# Altium footprint library APSS Flight Parts.PcbLib: 24 footprints (part 1 of 2)
Each footprint in its own frame and in the unit in brackets; x right, y up, seen from the top. Pads: shape width x height; smd on the part's side, far side on the other; paste and mask are expansions set on the pad; w line width, h text height; cw(c..) or ccw(c..) is an arc to the next point about the centre after c.
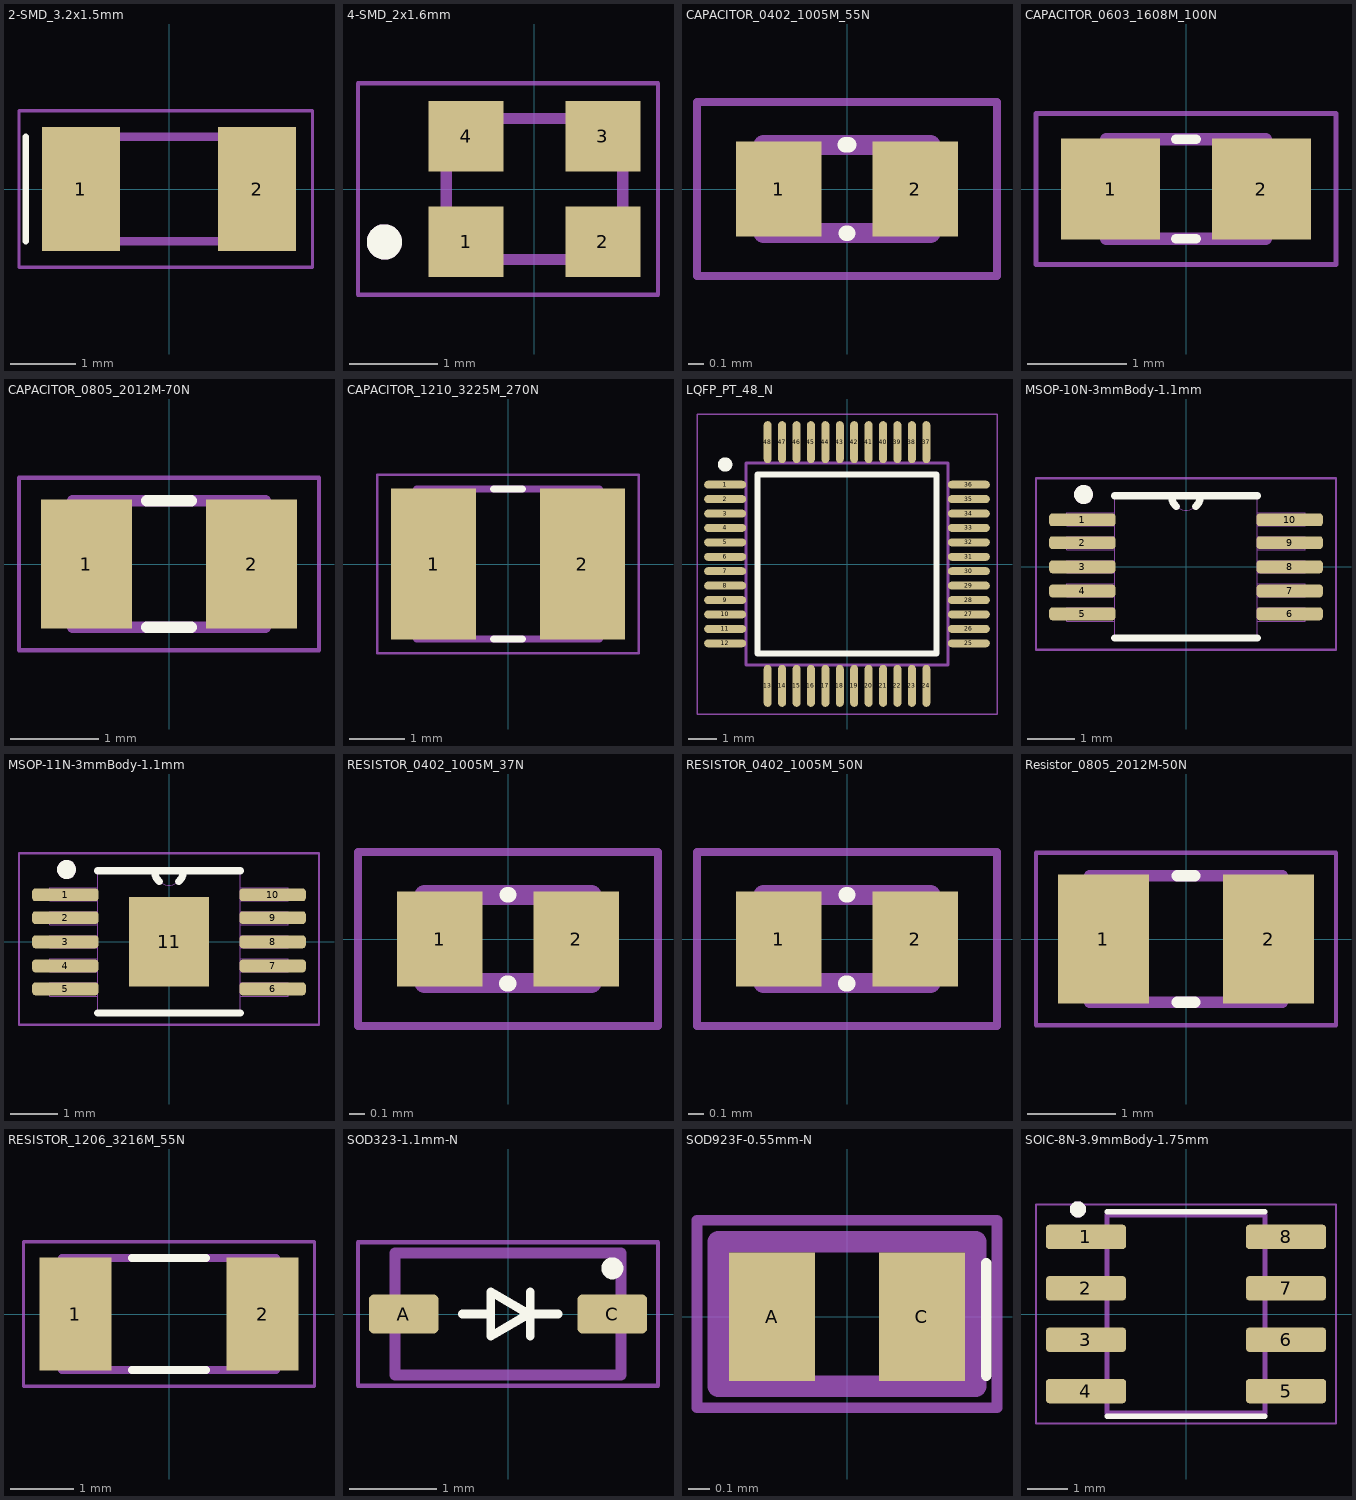
[diagram p0: the footprints below, top view; thin cyan lines are the x and y axes]

## 2-SMD_3.2x1.5mm [mm] "2SMD, No Lead, 3.20mm x 1.50mm"
height 0.9
pads (2):
  rect 1.2x1.9 smd: 1(-1.35,0) 2(1.35,0)
Top Overlay:
  lines w0.1: -2.2,-0.8 -2.2,0.8
Mechanical 13:
  lines w0.127: -1.7,-0.8 -1.7,0.8 1.7,0.8 1.7,-0.8 -1.7,-0.8
Mechanical 15:
  lines w0.05: -2.3,-1.2 -2.3,1.2 2.2,1.2 2.2,-1.2 -2.3,-1.2
3D body "XTAL_ECX-34Q_ECS.step": height 0.89, standoff 0, extent -1.651,-0.8 1.651,0.8

## 4-SMD_2x1.6mm [mm] "4SMD, No Lead, 2.00mm x 1.60mm"
height 0.65
pads (4):
  rect 0.85x0.8 smd: 1(-0.775,-0.6) 2(0.775,-0.6) 3(0.775,0.6) 4(-0.775,0.6)
Top Overlay:
  circle w0.2: c-1.7,-0.6 r0.1
Mechanical 13:
  circle w0.2: c-1.7,-0.6 r0.1
  lines w0.127: -1,-0.8 1,-0.8 1,0.8 -1,0.8 -1,-0.8
Mechanical 15:
  lines w0.05: -2,-1.2 1.4,-1.2 1.4,1.2 -2,1.2 -2,-1.2
3D body "ECS-320-8-37B-CKY-TR.step": height 0.51, standoff 0.01, extent -1,-0.8 1,0.8

## CAPACITOR_0402_1005M_55N [mm] "Capacitor, 0402 (1005 metric), 0.55mm height, nominal pads"
height 0.55
pads (2):
  rect 0.54x0.6 smd mask+0.051: 1(-0.432,0) 2(0.432,0)
Top Overlay:
  lines w0.1: -0.01,0.28 0.01,0.28 ; -0.005,-0.28 0.005,-0.28
Mechanical 13:
  lines w0.127: -0.53,-0.28 -0.53,0.28 0.53,0.28 0.53,-0.28 -0.53,-0.28
Mechanical 15:
  lines w0.05: -0.95,-0.55 -0.95,0.55 0.95,0.55 0.95,-0.55 -0.95,-0.55
3D body "GCM1555C1H102FA16D.step": height 0.48, standoff -0.02, extent -0.5,-0.279 0.5,0.271

## CAPACITOR_0603_1608M_100N [mm] "Capacitor, 0603 (1608 metric), 1mm high, nominal pads"
height 1
pads (2):
  rect 1x1.02 smd mask+0.051: 1(-0.759,0) 2(0.759,0)
Top Overlay:
  lines w0.1: -0.103,-0.5 0.1,-0.5 ; -0.103,0.5 0.1,0.5
Mechanical 13:
  lines w0.127: -0.8,-0.5 0.8,-0.5 0.8,0.5 -0.8,0.5 -0.8,-0.5
Mechanical 15:
  lines w0.05: -1.508,-0.758 1.508,-0.758 1.508,0.758 -1.508,0.758 -1.508,-0.758
3D body "GRM188Z71A106KA73D.step": height 0.78, standoff -0.02, extent -0.8,-0.5 0.8,0.5

## CAPACITOR_0805_2012M-70N [mm] "Capacitor, 0805 (2012 metric), 0.7mm high, nominal pads,"
height 0.5
pads (2):
  rect 1.04x1.47 smd mask+0.051: 1(-0.94,0) 2(0.94,0)
Top Overlay:
  lines w0.127: -0.254,-0.72 0.254,-0.72 ; -0.254,0.72 0.254,0.72
Mechanical 13:
  lines w0.127: -1.1,-0.72 -1.1,0.72 1.1,0.72 1.1,-0.72 -1.1,-0.72
Mechanical 15:
  lines w0.05: -1.708,-0.983 -1.708,0.983 1.708,0.983 1.708,-0.983 -1.708,-0.983
3D body "GCM2165C2A122JA16J.STEP": height 1.23, standoff -0.02, extent -1,-0.725 1,0.725

## CAPACITOR_1210_3225M_270N [mm] "Capacitor, 1210 (3225 metric), 2.7mm high, nominal pads"
height 2.7
pads (2):
  rect 1.53x2.72 smd: 1(-1.341,0) 2(1.341,0)
Top Overlay:
  lines w0.127: -0.26,-1.35 0.26,-1.35 ; -0.26,1.35 0.26,1.35
Mechanical 13:
  lines w0.127: -1.651,-1.35 -1.651,1.35 1.651,1.35 1.651,-1.35 -1.651,-1.35
Mechanical 15:
  lines w0.05: -2.355,-1.608 -2.355,1.608 2.355,1.608 2.355,-1.608 -2.355,-1.608
3D body "GRM32ER61A107ME20L.step": height 2.48, standoff -0.02, extent -1.6,-1.397 1.6,1.303

## LQFP_PT_48_N [mm]
pads (48):
  oval 1.45x0.28 smd paste+0 mask+0.051: 1(-4.225,2.75) 2(-4.225,2.25) 3(-4.225,1.75) 4(-4.225,1.25) 5(-4.225,0.75) 6(-4.225,0.25) 7(-4.225,-0.25) 8(-4.225,-0.75) 9(-4.225,-1.25) 10(-4.225,-1.75) 11(-4.225,-2.25) 12(-4.225,-2.75) 25(4.225,-2.75) 26(4.225,-2.25) 27(4.225,-1.75) 28(4.225,-1.25) 29(4.225,-0.75) 30(4.225,-0.25) 31(4.225,0.25) 32(4.225,0.75) 33(4.225,1.25) 34(4.225,1.75) 35(4.225,2.25) 36(4.225,2.75)
  oval 0.28x1.45 smd paste+0 mask+0.051: 13(-2.75,-4.225) 14(-2.25,-4.225) 15(-1.75,-4.225) 16(-1.25,-4.225) 17(-0.75,-4.225) 18(-0.25,-4.225) 19(0.25,-4.225) 20(0.75,-4.225) 21(1.25,-4.225) 22(1.75,-4.225) 23(2.25,-4.225) 24(2.75,-4.225) 37(2.75,4.225) 38(2.25,4.225) 39(1.75,4.225) 40(1.25,4.225) 41(0.75,4.225) 42(0.25,4.225) 43(-0.25,4.225) 44(-0.75,4.225) 45(-1.25,4.225) 46(-1.75,4.225) 47(-2.25,4.225) 48(-2.75,4.225)
Top Overlay:
  circle w0.25: c-4.225,3.45 r0.125
  lines w0.2: -3.1,-3.1 3.1,-3.1 3.1,3.1 -3.1,3.1 -3.1,-3.1
Mechanical 13:
  lines w0.1: -3.5,-3.5 3.5,-3.5 3.5,3.5 -3.5,3.5 -3.5,-3.5
Mechanical 15:
  lines w0.05: -5.2,-5.2 5.2,-5.2 5.2,5.2 -5.2,5.2 -5.2,-5.2
3D body "MSP430FR2355TPT.STEP": height 1.6, standoff 0, extent -4.5,-4.5 4.5,4.5

## MSOP-10N-3mmBody-1.1mm [mil] "MSOP-10, 3mm body width, 1.1mm high, nominal pads"
height 43.31
pads (10):
  rrect50% 55x10.63 smd mask+2: 1(-86,39) 2(-86,20) 3(-86,0) 4(-86,-20) 5(-86,-39) 6(86,-39) 7(86,-20) 8(86,0) 9(86,20) 10(86,39)
Top Overlay:
  circle w7.87: c-85,60 r3.94
  lines w6: -59,-59 59,-59 ; -59,59 -12,59 ; -7.99,49.99 cw(c0.11,58.99) -12,58.99 ; 7.99,49.99 ccw(c-0.11,58.99) 12,58.99 ; 59,59 12,59 ; -12,59 12,59
Mechanical 13:
  circle w7.87: c-85,60 r3.94
  lines w1: -99,-45 -59,-45 ; -99,-45 -99,-34 ; -99,-45 -59,-45 ; -99,-45 -99,-34 ; -99,-34 -59,-34 ; -99,-34 -59,-34 ; -99,-25 -59,-25 ; -99,-25 -99,-14 ; -99,-25 -59,-25 ; -99,-25 -99,-14 ; -99,-14 -59,-14 ; -99,-14 -59,-14 ; -99,-5 -59,-5 ; -99,-5 -99,5 ; -99,-5 -59,-5 ; -99,-5 -99,5 ; -99,5 -59,5 ; -99,5 -59,5 ; -99,14 -59,14 ; -99,14 -99,25 ; -99,14 -59,14 ; -99,14 -99,25 ; -99,25 -59,25 ; -99,25 -59,25 ; -99,34 -59,34 ; -99,34 -99,45 ; -99,34 -59,34 ; -99,34 -99,45 ; -99,45 -59,45 ; -99,45 -59,45 ; -59,-59 -59,59 ; -59,-59 59,-59 ; -59,-59 -59,59 ; -59,-59 59,-59 ; -59,-45 -59,-34 ; -59,-45 -59,-34 ; -59,-25 -59,-14 ; -59,-25 -59,-14 ; -59,-5 -59,5 ; -59,-5 -59,5 ; -59,14 -59,25 ; -59,14 -59,25 ; -59,34 -59,45 ; -59,34 -59,45 ; -59,59 -12,59 ; -59,59 -12,59 ; -12,59 ccw(c0,59) 12,59 ; -12,59 ccw(c0,59) 12,59 ; -12,59 12,59 ; -12,59 12,59 ; 12,59 59,59 ; 12,59 59,59 ; 59,-59 59,59 ; 59,-59 59,59 ; 59,-45 99,-45 ; 59,-45 59,-34 ; 59,-45 99,-45 ; 59,-45 59,-34 ; 59,-34 99,-34 ; 59,-34 99,-34 ; 59,-25 99,-25 ; 59,-25 59,-14 ; 59,-25 99,-25 ; 59,-25 59,-14 ; 59,-14 99,-14 ; 59,-14 99,-14 ; 59,-5 99,-5 ; 59,-5 59,5 ; 59,-5 99,-5 ; 59,-5 59,5 ; 59,5 99,5 ; 59,5 99,5 ; 59,14 99,14 ; 59,14 59,25 ; 59,14 99,14 ; 59,14 59,25 ; 59,25 99,25 ; 59,25 99,25 ; 59,34 99,34 ; 59,34 59,45 ; 59,34 99,34 ; 59,34 59,45 ; 59,45 99,45 ; 59,45 99,45 ; 99,-45 99,-34 ; 99,-45 99,-34 ; 99,-25 99,-14 ; 99,-25 99,-14 ; 99,-5 99,5 ; 99,-5 99,5 ; 99,14 99,25 ; 99,14 99,25 ; 99,34 99,45 ; 99,34 99,45
Mechanical 15:
  lines w1.97: -124.41,-68.9 124.41,-68.9 124.41,73.62 -124.41,73.62 -124.41,-68.9
3D body "AD5162BRMZ2.5-RL7.step": height 43.31, standoff 0, extent -96.46,-59.06 96.46,59.06

## MSOP-11N-3mmBody-1.1mm [mil] "MSOP-10 with power pad, 3mm body width, 1.1mm high, nominal pads"
height 43.31
pads (11):
  rrect50% 55x10.63 smd mask+2: 1(-86,39) 2(-86,20) 3(-86,0) 4(-86,-20) 5(-86,-39) 6(86,-39) 7(86,-20) 8(86,0) 9(86,20) 10(86,39)
  rect 66x74 smd mask+2: 11(0,0)
Top Overlay:
  circle w7.87: c-85,60 r3.94
  lines w6: -59,-59 59,-59 ; -59,59 -12,59 ; -7.99,49.99 cw(c0.11,58.99) -12,58.99 ; 7.99,49.99 ccw(c-0.11,58.99) 12,58.99 ; 59,59 12,59 ; -12,59 12,59
Mechanical 13:
  circle w7.87: c-85,60 r3.94
  lines w1: -99,-45 -59,-45 ; -99,-45 -99,-34 ; -99,-45 -59,-45 ; -99,-45 -99,-34 ; -99,-34 -59,-34 ; -99,-34 -59,-34 ; -99,-25 -59,-25 ; -99,-25 -99,-14 ; -99,-25 -59,-25 ; -99,-25 -99,-14 ; -99,-14 -59,-14 ; -99,-14 -59,-14 ; -99,-5 -59,-5 ; -99,-5 -99,5 ; -99,-5 -59,-5 ; -99,-5 -99,5 ; -99,5 -59,5 ; -99,5 -59,5 ; -99,14 -59,14 ; -99,14 -99,25 ; -99,14 -59,14 ; -99,14 -99,25 ; -99,25 -59,25 ; -99,25 -59,25 ; -99,34 -59,34 ; -99,34 -99,45 ; -99,34 -59,34 ; -99,34 -99,45 ; -99,45 -59,45 ; -99,45 -59,45 ; -59,-59 -59,59 ; -59,-59 59,-59 ; -59,-59 -59,59 ; -59,-59 59,-59 ; -59,-45 -59,-34 ; -59,-45 -59,-34 ; -59,-25 -59,-14 ; -59,-25 -59,-14 ; -59,-5 -59,5 ; -59,-5 -59,5 ; -59,14 -59,25 ; -59,14 -59,25 ; -59,34 -59,45 ; -59,34 -59,45 ; -59,59 -12,59 ; -59,59 -12,59 ; -12,59 ccw(c0,59) 12,59 ; -12,59 ccw(c0,59) 12,59 ; -12,59 12,59 ; -12,59 12,59 ; 12,59 59,59 ; 12,59 59,59 ; 59,-59 59,59 ; 59,-59 59,59 ; 59,-45 99,-45 ; 59,-45 59,-34 ; 59,-45 99,-45 ; 59,-45 59,-34 ; 59,-34 99,-34 ; 59,-34 99,-34 ; 59,-25 99,-25 ; 59,-25 59,-14 ; 59,-25 99,-25 ; 59,-25 59,-14 ; 59,-14 99,-14 ; 59,-14 99,-14 ; 59,-5 99,-5 ; 59,-5 59,5 ; 59,-5 99,-5 ; 59,-5 59,5 ; 59,5 99,5 ; 59,5 99,5 ; 59,14 99,14 ; 59,14 59,25 ; 59,14 99,14 ; 59,14 59,25 ; 59,25 99,25 ; 59,25 99,25 ; 59,34 99,34 ; 59,34 59,45 ; 59,34 99,34 ; 59,34 59,45 ; 59,45 99,45 ; 59,45 99,45 ; 99,-45 99,-34 ; 99,-45 99,-34 ; 99,-25 99,-14 ; 99,-25 99,-14 ; 99,-5 99,5 ; 99,-5 99,5 ; 99,14 99,25 ; 99,14 99,25 ; 99,34 99,45 ; 99,34 99,45
Mechanical 15:
  lines w1.97: -124.41,-68.9 -124.41,73.62 124.41,73.62 124.41,-68.9 -124.41,-68.9
3D body "LTC2634HMSE-HZ12PBF.step": height 43.31, standoff 0, extent -96.46,-59.06 96.46,59.06

## RESISTOR_0402_1005M_37N [mm] "Resistor, 0402 (1005 metric), 0.37mm height, nominal pads"
height 0.37
pads (2):
  rect 0.54x0.6 smd mask+0.051: 1(-0.432,0) 2(0.432,0)
Top Overlay:
  lines w0.1: -0.007,-0.282 0.003,-0.282 ; -0.005,0.28 0.005,0.28
Mechanical 13:
  lines w0.127: -0.53,-0.28 0.53,-0.28 0.53,0.28 -0.53,0.28 -0.53,-0.28
Mechanical 15:
  lines w0.05: -0.95,-0.55 0.95,-0.55 0.95,0.55 -0.95,0.55 -0.95,-0.55
3D body "RE0402BRE07560KL.step": height 0.37, standoff 0, extent -0.5,-0.25 0.5,0.25

## RESISTOR_0402_1005M_50N [mm] "Resistor, 0402 (1005 metric), 0.5mm height, nominal pads"
height 0.5
pads (2):
  rect 0.54x0.6 smd mask+0.051: 1(-0.432,0) 2(0.432,0)
Top Overlay:
  lines w0.1: -0.007,-0.282 0.003,-0.282 ; -0.005,0.28 0.005,0.28
Mechanical 13:
  lines w0.127: -0.53,-0.28 0.53,-0.28 0.53,0.28 -0.53,0.28 -0.53,-0.28
Mechanical 15:
  lines w0.05: -0.95,-0.55 0.95,-0.55 0.95,0.55 -0.95,0.55 -0.95,-0.55
3D body "NCP15XH103F03RC.step": height 0.48, standoff -0.02, extent -0.475,-0.279 0.525,0.271

## Resistor_0805_2012M-50N [mm] "Resistor, 0805 (2012 metric), nominal pads"
height 0.5
pads (2):
  rect 1.04x1.47 smd mask+0.051: 1(-0.94,0) 2(0.94,0)
Top Overlay:
  lines w0.127: -0.1,-0.72 0.1,-0.72 ; -0.1,0.72 0.1,0.72
Mechanical 13:
  lines w0.127: -1.1,-0.72 1.1,-0.72 1.1,0.72 -1.1,0.72 -1.1,-0.72
Mechanical 15:
  lines w0.05: -1.708,-0.983 1.708,-0.983 1.708,0.983 -1.708,0.983 -1.708,-0.983
3D body "RG2012P-103-D-T5.step": height 0.5, standoff 0, extent -1,-0.625 1,0.625

## RESISTOR_1206_3216M_55N [mm]
height 0.55
pads (2):
  rect 1.13x1.77 smd mask+0.051: 1(-1.47,0) 2(1.47,0)
Top Overlay:
  lines w0.127: -0.58,-0.88 0.58,-0.88 ; -0.58,0.88 0.58,0.88
Mechanical 13:
  lines w0.127: -1.68,-0.88 1.68,-0.88 1.68,0.88 -1.68,0.88 -1.68,-0.88
Mechanical 15:
  lines w0.05: -2.285,-1.135 2.285,-1.135 2.285,1.135 -2.285,1.135 -2.285,-1.135
3D body "TNPW120610K0BETA.STEP": height 0.65, standoff 0, extent -1.6,-0.8 1.6,0.8

## SOD323-1.1mm-N [mm] "SOD-323, nominal pads, 1.1mm high"
height 1.1
pads (2):
  rrect25% 0.8x0.45 smd mask+0.051: A(-1.2,0) C(1.2,0)
Top Overlay:
  circle w0.2: c1.2,0.525 r0.025
  lines w0.1: -0.525,0 -0.2,0 ; 0.206,0 0.575,0 ; 0.257,-0.254 0.257,0.254 ; -0.2,-0.254 0.24,0 -0.2,0.254 -0.2,-0.254
Mechanical 13:
  lines w0.127: -1.3,-0.7 1.3,-0.7 1.3,0.7 -1.3,0.7 -1.3,-0.7
Mechanical 15:
  lines w0.05: -1.725,-0.825 -1.725,0.825 -1.105,0.825 1.105,0.825 1.725,0.825 1.725,-0.825 -1.725,-0.825
3D body "CR_SOD323_DIO.step": height 1.05, standoff 0, extent -1.346,-0.698 1.346,0.698

## SOD923F-0.55mm-N [mm] "SOD-923F, nominal pads, 0.55mm high"
height 0.55
pads (2):
  rect 0.4x0.6 smd mask+0.051: A(-0.35,0) C(0.35,0)
Top Overlay:
  lines w0.05: 0.65,-0.275 0.65,0.25
Mechanical 13:
  lines w0.1: -0.6,-0.325 0.6,-0.325 0.6,0.35 -0.6,0.35 -0.6,-0.325
Mechanical 15:
  lines w0.05: -0.7,-0.425 0.7,-0.425 0.7,0.45 -0.7,0.45 -0.7,-0.425
3D body "CDBQC0130L-HF.STEP": height 0.54, standoff -0.01, extent -0.5,-0.3 0.5,0.3

## SOIC-8N-3.9mmBody-1.75mm [mm] "8-SOIC, 8 pins, 3.9mm body width, nominal pads, 1.75mm high"
height 1.75
pads (8):
  rrect25% 1.97x0.6 smd: 1(-2.47,1.905) 2(-2.47,0.635) 3(-2.47,-0.635) 4(-2.47,-1.905) 5(2.47,-1.905) 6(2.47,-0.635) 7(2.47,0.635) 8(2.47,1.905)
Top Overlay:
  circle w0.2: c-2.668,2.584 r0.1
  lines w0.127: -1.95,-2.525 1.95,-2.525 ; -1.95,2.525 1.95,2.525
Mechanical 13:
  circle w0.2: c-2.668,2.584 r0.1
  lines w0.127: -1.95,-2.452 -1.95,2.452 1.95,2.452 1.95,-2.452 -1.95,-2.452
Mechanical 15:
  lines w0.05: -3.705,-2.702 -3.705,2.702 3.705,2.702 3.705,-2.702 -3.705,-2.702
3D body "TLC555CDR.step": height 1.75, standoff 0, extent -3,-2.45 3,2.45